# Altium schematic symbol library LM7805.SchLib: 1 symbol
Pins are listed as number, name and electrical type; pins without a type are passive.

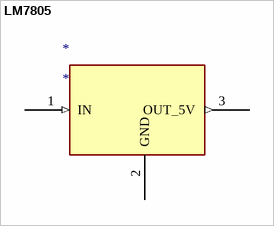
[diagram p0: symbol LM7805]

## LM7805
designator *
footprint TO-220
pins: 1 IN (in), 2 GND, 3 OUT_5V (out)